# Altium integrated library PTC Fuse 1206.IntLib: 1 symbol
Pins are listed as number, name and electrical type; pins without a type are passive.

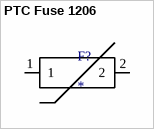
[diagram p0: symbol PTC Fuse 1206]

## PTC Fuse 1206
designator F?
footprint 1206
pins: 1, 2